# EAGLE library part BYP.1 (library mb3_supply pins)
I/O Pads for Bypass Switch Includes J1 (input) and J2 (output) jack connections. Pads are 80mil Diameter, 47mil Drill. LED is soldered directly to + (anode) and - (cathode) pads. "L" is used to connect LED cathode to the 3PDT switch for toggling.
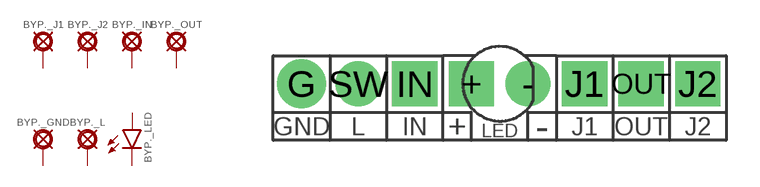
[diagram p0: symbol with the pads of IO.1; footprint IO.1]

Designator prefix BYP.; gates _J1=PAD _J2=PAD _IN=PAD _OUT=PAD _GND=PAD _L=PAD _LED=LED

## BYP.1  [IO.1]
+  _LED:+  pas
-  _LED:-  pas
G  _GND:PAD  pas
IN  _IN:PAD  pas
J1  _J1:PAD  pas
J2  _J2:PAD  pas
OUT  _OUT:PAD  pas
SW  _L:PAD  pas

## Footprint IO.1 (pad centres in mm)
drill 1.2 pad 2.032 square: + -1.27,0; IN -3.81,0; J1 3.81,0; J2 8.89,0; OUT 6.35,0
drill 1.2 pad 2.032: - 1.27,0; SW -6.35,0
drill 1.2 pad 2.184: G -8.89,0